# Altium schematic symbol library PS2.SchLib: 1 symbol
Pins are listed as number, name and electrical type; pins without a type are passive.

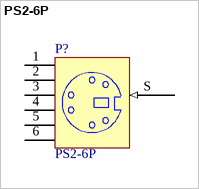
[diagram p0: symbol PS2-6P]

## PS2-6P
designator P?
6 Pin Through Hole PS2 Socket (Kycon P/N)
footprint PS2-6P (PS2 Socket, 6 Pin, Through Hole)
pins: 1, 2, 3, 4, 5, 6, S (in)